# Altium integrated library Analog Devices Operational Amplifiers.IntLib: 2102 symbols (part 48 of 70)
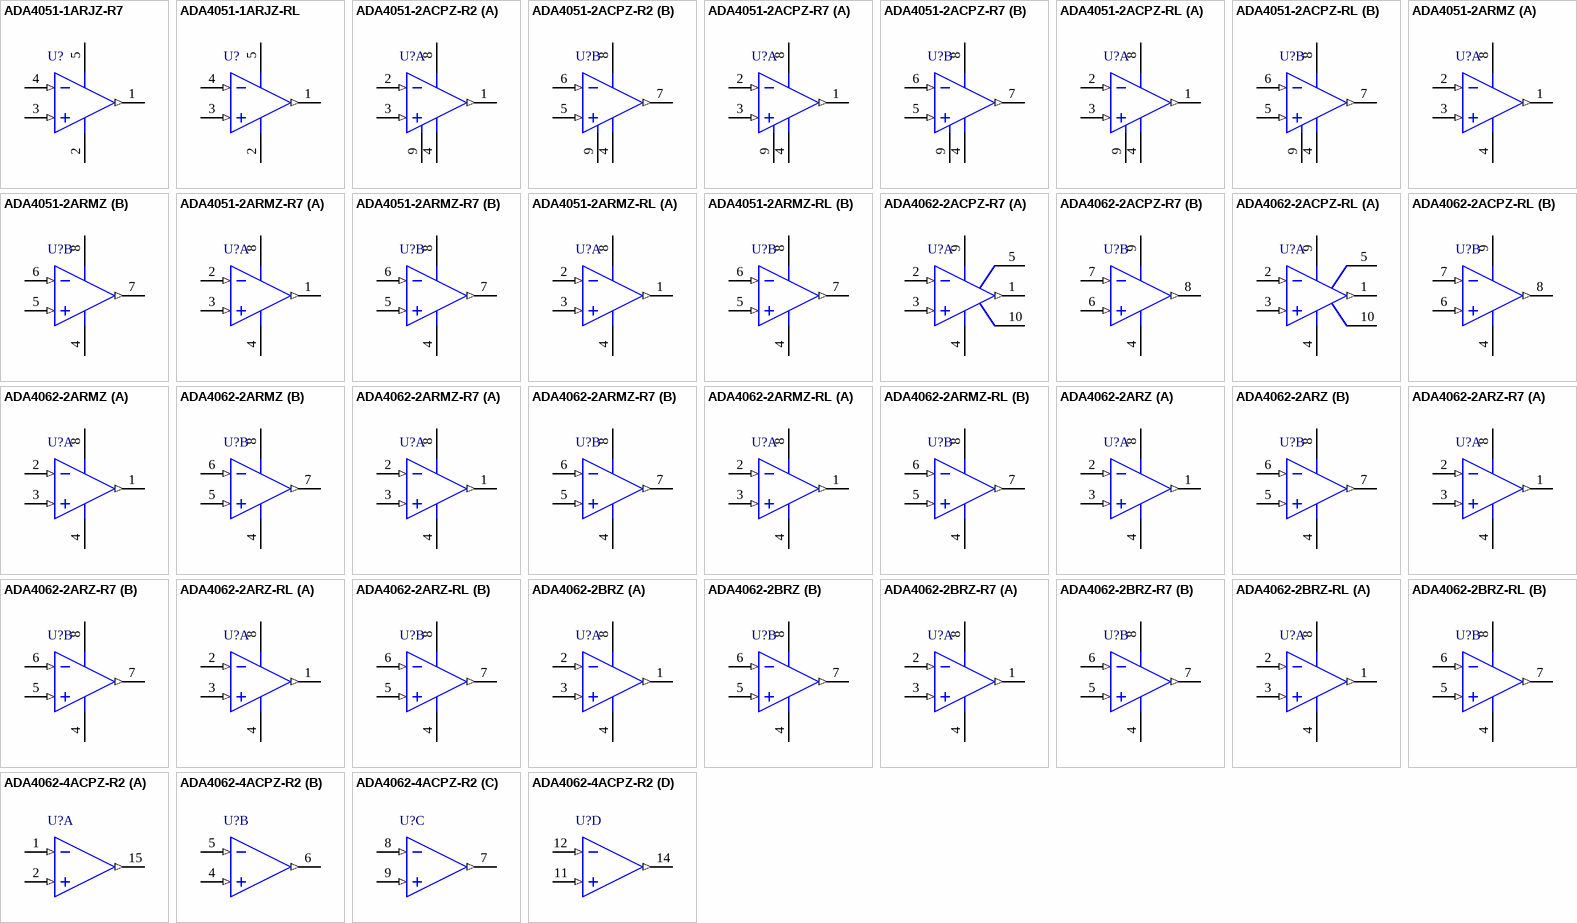
[diagram p161: symbols ADA4051-1ARJZ-R7 to ADA4062-4ACPZ-R2]

## ADA4062-2BRZ-RL
designator U?
Double Channel Low Supply Current Operational Amplifier, 1.4 MHz BW, 3.3 V/us SR, Industrial, 8-pin SOIC (R-8), Reel; Generic Part Number: ADA4062-2; Manufacturer: Analog Devices; PartNumber: ADA4062-2BRZ-RL; Amplifiers Per Package: 2; Input Bias Current: 2pA; Input Offset Voltage: 500uV; Iq/Amp: 165uA; Small Signal Bandwidth: 1.4MHz; V Span Max: 36V; V Span Min: 8V; DatasheetVersion: Rev. B; PackageVersion: 060506-A; PackageReference: R-8; PackageDescription: 8-Pin Standard Small Outline Package, Body 3.9 x 4.9 mm, Pitch 1.27 mm; Supplier 1: Digi-Key; Supplier Part Number 1: ADA4062-2BRZ-RL-ND; Slew Rate: 3.3V/us; Mounting Technology: Surface Mount; Code_JEDEC: MS-012-AA; ComponentLink1Description: Manufacturer URL; ComponentLink1URL: http://www.analog.com/en/index.html; ComponentLink2Description: Datasheet; ComponentLink2URL: http://www.analog.com/static/imported-files/data_sheets/ADA4062-2_4062-4.pdf; ComponentLink3Description: Package Specification; ComponentLink3URL: http://www.analog.com/static/imported-files/packages/PKG_PDF/SOIC_Narrow%20(R)/R_8.pdf; ComponentLink4Description: Reference Circuit; ComponentLink4URL: http://www.analog.com/en/all-operational-amplifiers-op-amps/operational-amplifiers-op-amps/ada4062-2/products/product.html#product-recommendations
footprint ADI-R-8_N (SOIC, 8-Leads, Body 4.9x3.9mm, Pitch 1.27mm, IPC Medium Density)
footprint ADI-R-8_L (SOIC, 8-Leads, Body 4.9x3.9mm, Pitch 1.27mm, IPC High Density)
footprint ADI-R-8_M (SOIC, 8-Leads, Body 4.9x3.9mm, Pitch 1.27mm, IPC Low Density)
pins on every part: 4 -V (power), 8 +V (power)
part A pins: 1 OUT A (out), 2 -IN A (in), 3 +IN A (in)
part B pins: 5 +IN B (in), 6 -IN B (in), 7 OUT B (out)

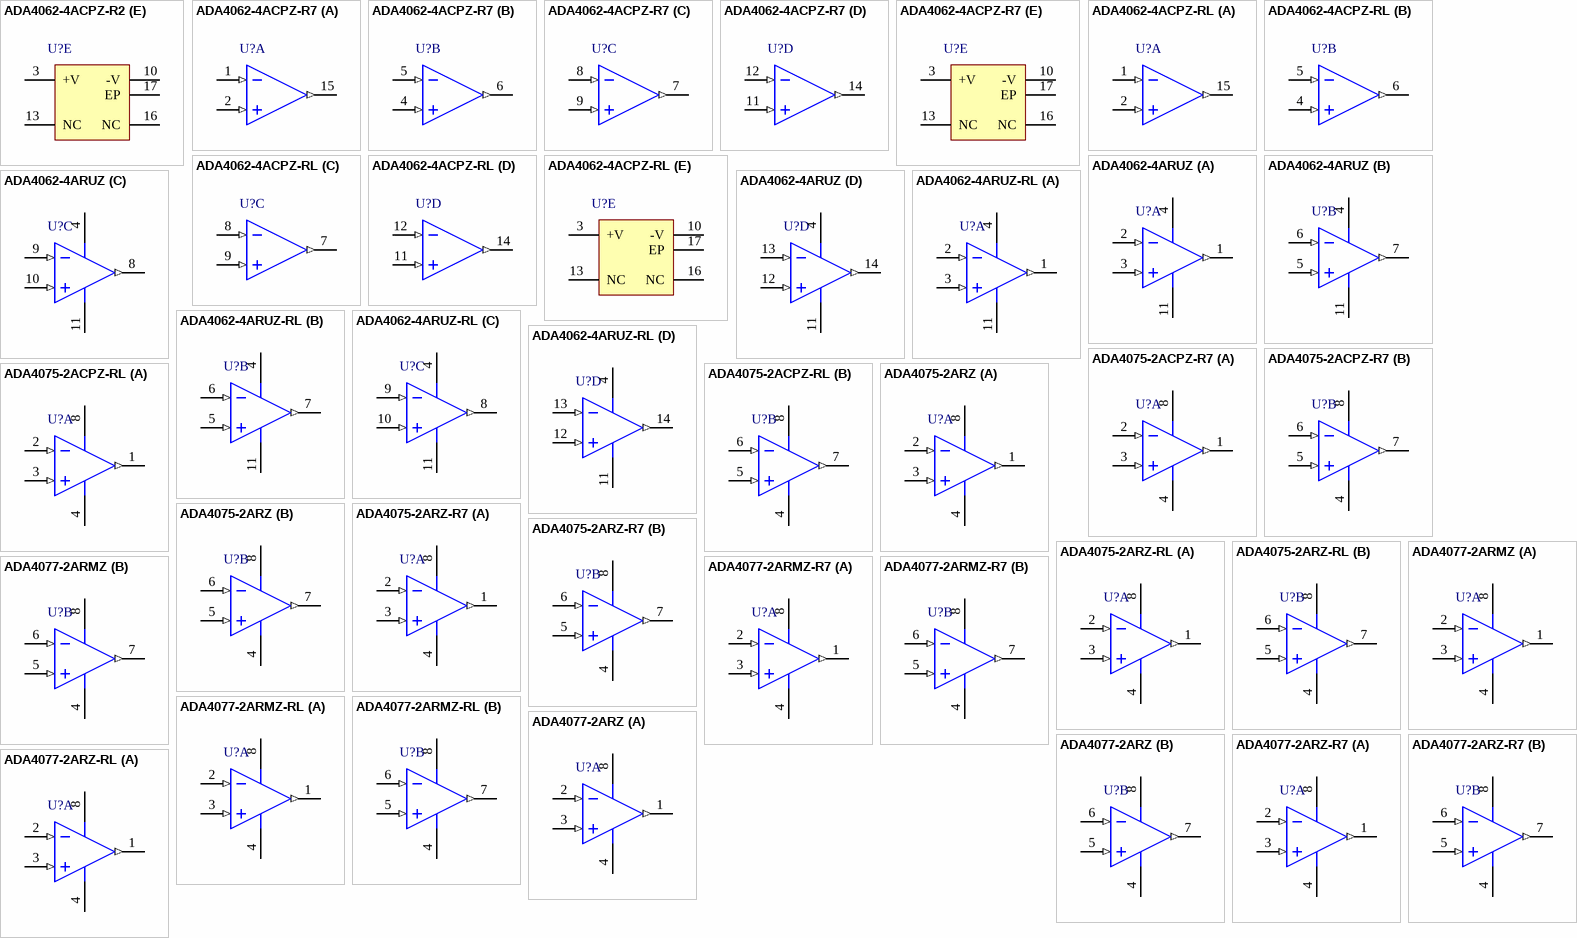
[diagram p75: symbols ADA4062-4ACPZ-R2 to ADA4077-2ARZ-RL]

## ADA4062-4ACPZ-R2
designator U?
Quad Channel Low Supply Current Operational Amplifier, 1.4 MHz BW, 3.3 V/us SR, Industrial, 16-pin QFN (CP-16-22), Reel; Generic Part Number: ADA4062-4; Manufacturer: Analog Devices; PartNumber: ADA4062-4ACPZ-R2; Amplifiers Per Package: 4; Input Bias Current: 2pA; Input Offset Voltage: 750uV; Iq/Amp: 165uA; Small Signal Bandwidth: 1.4MHz; V Span Max: 30V; DatasheetVersion: Rev. B; PackageVersion: 08-16-2010-E; PackageReference: CP-16-22; PackageDescription: 16-Pin Lead Frame Chip Scale Package, Body 3 x 3 mm, Pitch 0.5 mm; Supplier 1: Digi-Key; Supplier Part Number 1: ADA4062-4ACPZ-R2TR-ND; Supplier 2: Digi-Key; Supplier Part Number 2: ADA4062-4ACPZ-R2CT-ND; Supplier 3: Digi-Key; Supplier Part Number 3: ADA4062-4ACPZ-R2DKR-ND; Supplier 4: Newark; Supplier Part Number 4: 63R9727; Slew Rate: 3.3V/us; V Span Min: 30V; Mounting Technology: Surface Mount; Code_JEDEC: MO-220-WEED-6; ComponentLink1Description: Manufacturer URL; ComponentLink1URL: http://www.analog.com/en/index.html; ComponentLink2Description: Datasheet; ComponentLink2URL: http://www.analog.com/static/imported-files/data_sheets/ADA4062-2_4062-4.pdf; ComponentLink3Description: Package Specification; ComponentLink3URL: http://www.analog.com/static/imported-files/packages/PKG_PDF/LFCSP(CP)/CP-16/CP_16_22.pdf
footprint ADI-CP-16-22_N (QFN, 16-Leads, Body 3x3mm, Pitch 0.5mm, Thermal Pad 1.6x1.6mm, IPC Medium Density)
footprint ADI-CP-16-22_L (QFN, 16-Leads, Body 3x3mm, Pitch 0.5mm, Thermal Pad 1.6x1.6mm, IPC High Density)
footprint ADI-CP-16-22_M (QFN, 16-Leads, Body 3x3mm, Pitch 0.5mm, Thermal Pad 1.6x1.6mm, IPC Low Density)
part A pins: 1 -IN A (in), 2 +IN A (in), 15 OUT A (out)
part B pins: 4 +IN B (in), 5 -IN B (in), 6 OUT B (out)
part C pins: 7 OUT C (out), 8 -IN C (in), 9 +IN C (in)
part D pins: 11 +IN D (in), 12 -IN D (in), 14 OUT D (out)
part E pins: 3 +V (power), 10 -V (power), 13 NC, 16 NC, 17 EP (power) "IT IS RECOMMENDED TO CONNECT THE EXPOSED PAD TO V-."

## ADA4062-4ACPZ-R7
designator U?
Quad Channel Low Supply Current Operational Amplifier, 1.4 MHz BW, 3.3 V/us SR, Industrial, 16-pin QFN (CP-16-22), Reel; Generic Part Number: ADA4062-4; Manufacturer: Analog Devices; PartNumber: ADA4062-4ACPZ-R7; Amplifiers Per Package: 4; Input Bias Current: 2pA; Input Offset Voltage: 750uV; Iq/Amp: 165uA; Small Signal Bandwidth: 1.4MHz; V Span Max: 30V; DatasheetVersion: Rev. B; PackageVersion: 08-16-2010-E; PackageReference: CP-16-22; PackageDescription: 16-Pin Lead Frame Chip Scale Package, Body 3 x 3 mm, Pitch 0.5 mm; Supplier 1: Digi-Key; Supplier Part Number 1: ADA4062-4ACPZ-R7-ND; Slew Rate: 3.3V/us; V Span Min: 30V; Mounting Technology: Surface Mount; Code_JEDEC: MO-220-WEED-6; ComponentLink1Description: Manufacturer URL; ComponentLink1URL: http://www.analog.com/en/index.html; ComponentLink2Description: Datasheet; ComponentLink2URL: http://www.analog.com/static/imported-files/data_sheets/ADA4062-2_4062-4.pdf; ComponentLink3Description: Package Specification; ComponentLink3URL: http://www.analog.com/static/imported-files/packages/PKG_PDF/LFCSP(CP)/CP-16/CP_16_22.pdf
footprint ADI-CP-16-22_N (QFN, 16-Leads, Body 3x3mm, Pitch 0.5mm, Thermal Pad 1.6x1.6mm, IPC Medium Density)
footprint ADI-CP-16-22_L (QFN, 16-Leads, Body 3x3mm, Pitch 0.5mm, Thermal Pad 1.6x1.6mm, IPC High Density)
footprint ADI-CP-16-22_M (QFN, 16-Leads, Body 3x3mm, Pitch 0.5mm, Thermal Pad 1.6x1.6mm, IPC Low Density)
part A pins: 1 -IN A (in), 2 +IN A (in), 15 OUT A (out)
part B pins: 4 +IN B (in), 5 -IN B (in), 6 OUT B (out)
part C pins: 7 OUT C (out), 8 -IN C (in), 9 +IN C (in)
part D pins: 11 +IN D (in), 12 -IN D (in), 14 OUT D (out)
part E pins: 3 +V (power), 10 -V (power), 13 NC, 16 NC, 17 EP (power) "IT IS RECOMMENDED TO CONNECT THE EXPOSED PAD TO V-."

## ADA4062-4ACPZ-RL
designator U?
Quad Channel Low Supply Current Operational Amplifier, 1.4 MHz BW, 3.3 V/us SR, Industrial, 16-pin QFN (CP-16-22), Reel; Generic Part Number: ADA4062-4; Manufacturer: Analog Devices; PartNumber: ADA4062-4ACPZ-RL; Amplifiers Per Package: 4; Input Bias Current: 2pA; Input Offset Voltage: 750uV; Iq/Amp: 165uA; Small Signal Bandwidth: 1.4MHz; V Span Max: 30V; DatasheetVersion: Rev. B; PackageVersion: 08-16-2010-E; PackageReference: CP-16-22; PackageDescription: 16-Pin Lead Frame Chip Scale Package, Body 3 x 3 mm, Pitch 0.5 mm; Supplier 1: Digi-Key; Supplier Part Number 1: ADA4062-4ACPZ-RL-ND; Slew Rate: 3.3V/us; V Span Min: 30V; Mounting Technology: Surface Mount; Code_JEDEC: MO-220-WEED-6; ComponentLink1Description: Manufacturer URL; ComponentLink1URL: http://www.analog.com/en/index.html; ComponentLink2Description: Datasheet; ComponentLink2URL: http://www.analog.com/static/imported-files/data_sheets/ADA4062-2_4062-4.pdf; ComponentLink3Description: Package Specification; ComponentLink3URL: http://www.analog.com/static/imported-files/packages/PKG_PDF/LFCSP(CP)/CP-16/CP_16_22.pdf
footprint ADI-CP-16-22_N (QFN, 16-Leads, Body 3x3mm, Pitch 0.5mm, Thermal Pad 1.6x1.6mm, IPC Medium Density)
footprint ADI-CP-16-22_L (QFN, 16-Leads, Body 3x3mm, Pitch 0.5mm, Thermal Pad 1.6x1.6mm, IPC High Density)
footprint ADI-CP-16-22_M (QFN, 16-Leads, Body 3x3mm, Pitch 0.5mm, Thermal Pad 1.6x1.6mm, IPC Low Density)
part A pins: 1 -IN A (in), 2 +IN A (in), 15 OUT A (out)
part B pins: 4 +IN B (in), 5 -IN B (in), 6 OUT B (out)
part C pins: 7 OUT C (out), 8 -IN C (in), 9 +IN C (in)
part D pins: 11 +IN D (in), 12 -IN D (in), 14 OUT D (out)
part E pins: 3 +V (power), 10 -V (power), 13 NC, 16 NC, 17 EP (power) "IT IS RECOMMENDED TO CONNECT THE EXPOSED PAD TO V-."

## ADA4062-4ARUZ
designator U?
Quad Channel Low Supply Current Operational Amplifier, 1.4 MHz BW, 3.3 V/us SR, Industrial, 14-pin SOP (RU-14), Tube; Generic Part Number: ADA4062-4; Manufacturer: Analog Devices; PartNumber: ADA4062-4ARUZ; Amplifiers Per Package: 4; Input Bias Current: 2pA; Input Offset Voltage: 750uV; Iq/Amp: 165uA; Small Signal Bandwidth: 1.4MHz; V Span Max: 30V; DatasheetVersion: Rev. B; PackageReference: RU-14; PackageDescription: 14-Pin Thin Shrink Small Outline Package, Body 5 x 4.4 mm, Pitch 0.65 mm; Supplier 1: Digi-Key; Supplier Part Number 1: ADA4062-4ARUZ-ND; Supplier 2: Newark; Supplier Part Number 2: 26R2385; Slew Rate: 3.3V/us; V Span Min: 30V; Mounting Technology: Surface Mount; Code_JEDEC: MO-153AB-1; ComponentLink1Description: Manufacturer URL; ComponentLink1URL: http://www.analog.com/en/index.html; ComponentLink2Description: Datasheet; ComponentLink2URL: http://www.analog.com/static/imported-files/data_sheets/ADA4062-2_4062-4.pdf; ComponentLink3Description: Package Specification; ComponentLink3URL: http://www.analog.com/static/imported-files/packages/36057385283879153717235186773RU14.pdf
footprint ADI-RU-14_N (SOP, 14-Leads, Body 5x4.4mm, Pitch 0.65mm, IPC Medium Density)
footprint ADI-RU-14_L (SOP, 14-Leads, Body 5x4.4mm, Pitch 0.65mm, IPC High Density)
footprint ADI-RU-14_M (SOP, 14-Leads, Body 5x4.4mm, Pitch 0.65mm, IPC Low Density)
pins on every part: 4 +V (power), 11 -V (power)
part A pins: 1 OUT A (out), 2 -IN A (in), 3 +IN A (in)
part B pins: 5 +IN B (in), 6 -IN B (in), 7 OUT B (out)
part C pins: 8 OUT C (out), 9 -IN C (in), 10 +IN C (in)
part D pins: 12 +IN D (in), 13 -IN D (in), 14 OUT D (out)

## ADA4062-4ARUZ-RL
designator U?
Quad Channel Low Supply Current Operational Amplifier, 1.4 MHz BW, 3.3 V/us SR, Industrial, 14-pin SOP (RU-14), Reel; Generic Part Number: ADA4062-4; Manufacturer: Analog Devices; PartNumber: ADA4062-4ARUZ-RL; Amplifiers Per Package: 4; Input Bias Current: 2pA; Input Offset Voltage: 750uV; Iq/Amp: 165uA; Small Signal Bandwidth: 1.4MHz; V Span Max: 30V; DatasheetVersion: Rev. B; PackageReference: RU-14; PackageDescription: 14-Pin Thin Shrink Small Outline Package, Body 5 x 4.4 mm, Pitch 0.65 mm; Supplier 1: Digi-Key; Supplier Part Number 1: ADA4062-4ARUZ-RL-ND; Supplier 2: Newark; Supplier Part Number 2: 26R2386; Slew Rate: 3.3V/us; V Span Min: 30V; Mounting Technology: Surface Mount; Code_JEDEC: MO-153AB-1; ComponentLink1Description: Manufacturer URL; ComponentLink1URL: http://www.analog.com/en/index.html; ComponentLink2Description: Datasheet; ComponentLink2URL: http://www.analog.com/static/imported-files/data_sheets/ADA4062-2_4062-4.pdf; ComponentLink3Description: Package Specification; ComponentLink3URL: http://www.analog.com/static/imported-files/packages/36057385283879153717235186773RU14.pdf
footprint ADI-RU-14_N (SOP, 14-Leads, Body 5x4.4mm, Pitch 0.65mm, IPC Medium Density)
footprint ADI-RU-14_L (SOP, 14-Leads, Body 5x4.4mm, Pitch 0.65mm, IPC High Density)
footprint ADI-RU-14_M (SOP, 14-Leads, Body 5x4.4mm, Pitch 0.65mm, IPC Low Density)
pins on every part: 4 +V (power), 11 -V (power)
part A pins: 1 OUT A (out), 2 -IN A (in), 3 +IN A (in)
part B pins: 5 +IN B (in), 6 -IN B (in), 7 OUT B (out)
part C pins: 8 OUT C (out), 9 -IN C (in), 10 +IN C (in)
part D pins: 12 +IN D (in), 13 -IN D (in), 14 OUT D (out)

## ADA4075-2ACPZ-R7
designator U?
Double Channel Ultra Low Noise Operational Amplifier, 6.5 MHz BW, 12 V/us SR, Industrial, 8-pin SON (CP-8-6), Reel; Generic Part Number: ADA4075-2; Manufacturer: Analog Devices; PartNumber: ADA4075-2ACPZ-R7; Amplifiers Per Package: 2; Input Bias Current: 30nA; Input Offset Voltage: 300uV; Iq/Amp: 1.8mA; Slew Rate: 12V/us; Small Signal Bandwidth: 6.5MHz; V Span Max: 36V; V Span Min: 24V; DatasheetVersion: Rev. B; PackageVersion: 041508-A; PackageReference: CP-8-6; PackageDescription: 8-Pin Lead Frame Chip Scale Package, Body 2 x 2 mm, Pitch 0.5 mm; Supplier 1: Digi-Key; Supplier Part Number 1: ADA4075-2ACPZ-R7TR-ND; Supplier 2: Digi-Key; Supplier Part Number 2: ADA4075-2ACPZ-R7CT-ND; Supplier 3: Digi-Key; Supplier Part Number 3: ADA4075-2ACPZ-R7DKR-ND; Supplier 4: Farnell; Supplier Part Number 4: 2291566; Supplier 5: Newark; Supplier Part Number 5: 63W5356; Supplier 6: Newark; Supplier Part Number 6: 26R2389; Supplier 7: Newark; Supplier Part Number 7: 66W5877; Mounting Technology: Surface Mount; ComponentLink1Description: Manufacturer URL; ComponentLink1URL: http://www.analog.com/en/index.html; ComponentLink2Description: Datasheet; ComponentLink2URL: http://www.analog.com/static/imported-files/data_sheets/ADA4075-2.pdf; ComponentLink3Description: Package Specification; ComponentLink3URL: http://www.analog.com/static/imported-files/packages/PKG_PDF/LFCSP(CP)/CP_8_6.pdf
footprint ADI-CP-8-6_V (SON, 8-Leads, Body 2x2mm, Pitch 0.5mm)
pins on every part: 4 -V (power), 8 +V (power)
part A pins: 1 OUT A (out), 2 -IN A (in), 3 +IN A (in)
part B pins: 5 +IN B (in), 6 -IN B (in), 7 OUT B (out)

## ADA4075-2ACPZ-RL
designator U?
Double Channel Ultra Low Noise Operational Amplifier, 6.5 MHz BW, 12 V/us SR, Industrial, 8-pin SON (CP-8-6), Reel; Generic Part Number: ADA4075-2; Manufacturer: Analog Devices; PartNumber: ADA4075-2ACPZ-RL; Amplifiers Per Package: 2; Input Bias Current: 30nA; Input Offset Voltage: 300uV; Iq/Amp: 1.8mA; Slew Rate: 12V/us; Small Signal Bandwidth: 6.5MHz; V Span Max: 36V; V Span Min: 24V; DatasheetVersion: Rev. B; PackageVersion: 041508-A; PackageReference: CP-8-6; PackageDescription: 8-Pin Lead Frame Chip Scale Package, Body 2 x 2 mm, Pitch 0.5 mm; Supplier 1: Digi-Key; Supplier Part Number 1: ADA4075-2ACPZ-RL-ND; Supplier 2: Newark; Supplier Part Number 2: 26R2387; Mounting Technology: Surface Mount; ComponentLink1Description: Manufacturer URL; ComponentLink1URL: http://www.analog.com/en/index.html; ComponentLink2Description: Datasheet; ComponentLink2URL: http://www.analog.com/static/imported-files/data_sheets/ADA4075-2.pdf; ComponentLink3Description: Package Specification; ComponentLink3URL: http://www.analog.com/static/imported-files/packages/PKG_PDF/LFCSP(CP)/CP_8_6.pdf
footprint ADI-CP-8-6_V (SON, 8-Leads, Body 2x2mm, Pitch 0.5mm)
pins on every part: 4 -V (power), 8 +V (power)
part A pins: 1 OUT A (out), 2 -IN A (in), 3 +IN A (in)
part B pins: 5 +IN B (in), 6 -IN B (in), 7 OUT B (out)

## ADA4075-2ARZ
designator U?
Double Channel Ultra Low Noise Operational Amplifier, 6.5 MHz BW, 12 V/us SR, Industrial, 8-pin SOIC (R-8), Tube; Generic Part Number: ADA4075-2; Manufacturer: Analog Devices; PartNumber: ADA4075-2ARZ; Amplifiers Per Package: 2; Input Bias Current: 30nA; Input Offset Voltage: 300uV; Iq/Amp: 1.8mA; Slew Rate: 12V/us; Small Signal Bandwidth: 6.5MHz; V Span Max: 36V; V Span Min: 24V; DatasheetVersion: Rev. B; PackageVersion: 060506-A; PackageReference: R-8; PackageDescription: 8-Pin Standard Small Outline Package, Body 3.9 x 4.9 mm, Pitch 1.27 mm; Supplier 1: Digi-Key; Supplier Part Number 1: ADA4075-2ARZ-ND; Supplier 2: Farnell; Supplier Part Number 2: 1701254; Supplier 3: Newark; Supplier Part Number 3: 19P8164; Mounting Technology: Surface Mount; Code_JEDEC: MS-012-AA; ComponentLink1Description: Manufacturer URL; ComponentLink1URL: http://www.analog.com/en/index.html; ComponentLink2Description: Datasheet; ComponentLink2URL: http://www.analog.com/static/imported-files/data_sheets/ADA4075-2.pdf; ComponentLink3Description: Package Specification; ComponentLink3URL: http://www.analog.com/static/imported-files/packages/PKG_PDF/SOIC_Narrow%20(R)/R_8.pdf
footprint ADI-R-8_N (SOIC, 8-Leads, Body 4.9x3.9mm, Pitch 1.27mm, IPC Medium Density)
footprint ADI-R-8_L (SOIC, 8-Leads, Body 4.9x3.9mm, Pitch 1.27mm, IPC High Density)
footprint ADI-R-8_M (SOIC, 8-Leads, Body 4.9x3.9mm, Pitch 1.27mm, IPC Low Density)
pins on every part: 4 -V (power), 8 +V (power)
part A pins: 1 OUT A (out), 2 -IN A (in), 3 +IN A (in)
part B pins: 5 +IN B (in), 6 -IN B (in), 7 OUT B (out)

## ADA4075-2ARZ-R7
designator U?
Double Channel Ultra Low Noise Operational Amplifier, 6.5 MHz BW, 12 V/us SR, Industrial, 8-pin SOIC (R-8), Reel; Generic Part Number: ADA4075-2; Manufacturer: Analog Devices; PartNumber: ADA4075-2ARZ-R7; Amplifiers Per Package: 2; Input Bias Current: 30nA; Input Offset Voltage: 300uV; Iq/Amp: 1.8mA; Slew Rate: 12V/us; Small Signal Bandwidth: 6.5MHz; V Span Max: 36V; V Span Min: 24V; DatasheetVersion: Rev. B; PackageVersion: 060506-A; PackageReference: R-8; PackageDescription: 8-Pin Standard Small Outline Package, Body 3.9 x 4.9 mm, Pitch 1.27 mm; Supplier 1: Digi-Key; Supplier Part Number 1: ADA4075-2ARZ-R7-ND; Supplier 2: Newark; Supplier Part Number 2: 19P8166; Mounting Technology: Surface Mount; Code_JEDEC: MS-012-AA; ComponentLink1Description: Manufacturer URL; ComponentLink1URL: http://www.analog.com/en/index.html; ComponentLink2Description: Datasheet; ComponentLink2URL: http://www.analog.com/static/imported-files/data_sheets/ADA4075-2.pdf; ComponentLink3Description: Package Specification; ComponentLink3URL: http://www.analog.com/static/imported-files/packages/PKG_PDF/SOIC_Narrow%20(R)/R_8.pdf
footprint ADI-R-8_N (SOIC, 8-Leads, Body 4.9x3.9mm, Pitch 1.27mm, IPC Medium Density)
footprint ADI-R-8_L (SOIC, 8-Leads, Body 4.9x3.9mm, Pitch 1.27mm, IPC High Density)
footprint ADI-R-8_M (SOIC, 8-Leads, Body 4.9x3.9mm, Pitch 1.27mm, IPC Low Density)
pins on every part: 4 -V (power), 8 +V (power)
part A pins: 1 OUT A (out), 2 -IN A (in), 3 +IN A (in)
part B pins: 5 +IN B (in), 6 -IN B (in), 7 OUT B (out)

## ADA4075-2ARZ-RL
designator U?
Double Channel Ultra Low Noise Operational Amplifier, 6.5 MHz BW, 12 V/us SR, Industrial, 8-pin SOIC (R-8), Reel; Generic Part Number: ADA4075-2; Manufacturer: Analog Devices; PartNumber: ADA4075-2ARZ-RL; Amplifiers Per Package: 2; Input Bias Current: 30nA; Input Offset Voltage: 300uV; Iq/Amp: 1.8mA; Slew Rate: 12V/us; Small Signal Bandwidth: 6.5MHz; V Span Max: 36V; V Span Min: 24V; DatasheetVersion: Rev. B; PackageVersion: 060506-A; PackageReference: R-8; PackageDescription: 8-Pin Standard Small Outline Package, Body 3.9 x 4.9 mm, Pitch 1.27 mm; Supplier 1: Digi-Key; Supplier Part Number 1: ADA4075-2ARZ-RL-ND; Supplier 2: Newark; Supplier Part Number 2: 19P8165; Mounting Technology: Surface Mount; Code_JEDEC: MS-012-AA; ComponentLink1Description: Manufacturer URL; ComponentLink1URL: http://www.analog.com/en/index.html; ComponentLink2Description: Datasheet; ComponentLink2URL: http://www.analog.com/static/imported-files/data_sheets/ADA4075-2.pdf; ComponentLink3Description: Package Specification; ComponentLink3URL: http://www.analog.com/static/imported-files/packages/PKG_PDF/SOIC_Narrow%20(R)/R_8.pdf
footprint ADI-R-8_N (SOIC, 8-Leads, Body 4.9x3.9mm, Pitch 1.27mm, IPC Medium Density)
footprint ADI-R-8_L (SOIC, 8-Leads, Body 4.9x3.9mm, Pitch 1.27mm, IPC High Density)
footprint ADI-R-8_M (SOIC, 8-Leads, Body 4.9x3.9mm, Pitch 1.27mm, IPC Low Density)
pins on every part: 4 -V (power), 8 +V (power)
part A pins: 1 OUT A (out), 2 -IN A (in), 3 +IN A (in)
part B pins: 5 +IN B (in), 6 -IN B (in), 7 OUT B (out)

## ADA4077-2ARMZ
designator U?
Double Channel Wide Bandwidth Operational Amplifier, 4 MHz BW, 1 V/us SR, Industrial, 8-pin SOP (RM-8), Tube; Generic Part Number: ADA4077-2; Manufacturer: Analog Devices; PartNumber: ADA4077-2ARMZ; Amplifiers Per Package: 2; Input Bias Current: -400pA; Input Offset Voltage: 50uV; Iq/Amp: 400uA; Slew Rate: 1V/us; Small Signal Bandwidth: 4MHz; V Span Max: 30V; V Span Min: 10V; DatasheetVersion: Rev. 0; PackageReference: RM-8; PackageDescription: 8-Pin Mini Small Outline Package, Body 3 x 3 mm, Pitch 0.65 mm; Supplier 1: Digi-Key; Supplier Part Number 1: ADA4077-2ARMZ-ND; Supplier 2: Newark; Supplier Part Number 2: 47W4378; Packing: Tube; Mounting Technology: Surface Mount; Code_JEDEC: MO-187-AA; ComponentLink1Description: Manufacturer URL; ComponentLink1URL: http://www.analog.com/en/index.html; ComponentLink2Description: Datasheet; ComponentLink2URL: http://www.analog.com/static/imported-files/data_sheets/ADA4077-2.pdf; ComponentLink3Description: Package Specification; ComponentLink3URL: http://www.analog.com/static/imported-files/packages/PKG_PDF/MSOP%28RM%29/RM_8.pdf
footprint ADI-RM-8_N (SOP, 8-Leads, Body 3x3mm, Pitch 0.65mm, IPC Medium Density)
footprint ADI-RM-8_L (SOP, 8-Leads, Body 3x3mm, Pitch 0.65mm, IPC High Density)
footprint ADI-RM-8_M (SOP, 8-Leads, Body 3x3mm, Pitch 0.65mm, IPC Low Density)
pins on every part: 4 -V (power), 8 +V (power)
part A pins: 1 OUT A (out), 2 -IN A (in), 3 +IN A (in)
part B pins: 5 +IN B (in), 6 -IN B (in), 7 OUT B (out)

## ADA4077-2ARMZ-R7
designator U?
Double Channel Wide Bandwidth Operational Amplifier, 4 MHz BW, 1 V/us SR, Industrial, 8-pin SOP (RM-8), Reel; Generic Part Number: ADA4077-2; Manufacturer: Analog Devices; PartNumber: ADA4077-2ARMZ-R7; Amplifiers Per Package: 2; Input Bias Current: -400pA; Input Offset Voltage: 50uV; Iq/Amp: 400uA; Slew Rate: 1V/us; Small Signal Bandwidth: 4MHz; V Span Max: 30V; V Span Min: 10V; DatasheetVersion: Rev. 0; PackageReference: RM-8; PackageDescription: 8-Pin Mini Small Outline Package, Body 3 x 3 mm, Pitch 0.65 mm; Supplier 1: Digi-Key; Supplier Part Number 1: ADA4077-2ARMZ-R7TR-ND; Supplier 2: Digi-Key; Supplier Part Number 2: ADA4077-2ARMZ-R7CT-ND; Supplier 3: Digi-Key; Supplier Part Number 3: ADA4077-2ARMZ-R7DKR-ND; Supplier 4: Newark; Supplier Part Number 4: 47W4380; Mounting Technology: Surface Mount; Code_JEDEC: MO-187-AA; ComponentLink1Description: Manufacturer URL; ComponentLink1URL: http://www.analog.com/en/index.html; ComponentLink2Description: Datasheet; ComponentLink2URL: http://www.analog.com/static/imported-files/data_sheets/ADA4077-2.pdf; ComponentLink3Description: Package Specification; ComponentLink3URL: http://www.analog.com/static/imported-files/packages/PKG_PDF/MSOP%28RM%29/RM_8.pdf
footprint ADI-RM-8_N (SOP, 8-Leads, Body 3x3mm, Pitch 0.65mm, IPC Medium Density)
footprint ADI-RM-8_L (SOP, 8-Leads, Body 3x3mm, Pitch 0.65mm, IPC High Density)
footprint ADI-RM-8_M (SOP, 8-Leads, Body 3x3mm, Pitch 0.65mm, IPC Low Density)
pins on every part: 4 -V (power), 8 +V (power)
part A pins: 1 OUT A (out), 2 -IN A (in), 3 +IN A (in)
part B pins: 5 +IN B (in), 6 -IN B (in), 7 OUT B (out)

## ADA4077-2ARMZ-RL
designator U?
Double Channel Wide Bandwidth Operational Amplifier, 4 MHz BW, 1 V/us SR, Industrial, 8-pin SOP (RM-8), Reel; Generic Part Number: ADA4077-2; Manufacturer: Analog Devices; PartNumber: ADA4077-2ARMZ-RL; Amplifiers Per Package: 2; Input Bias Current: -400pA; Input Offset Voltage: 50uV; Iq/Amp: 400uA; Slew Rate: 1V/us; Small Signal Bandwidth: 4MHz; V Span Max: 30V; V Span Min: 10V; DatasheetVersion: Rev. 0; PackageReference: RM-8; PackageDescription: 8-Pin Mini Small Outline Package, Body 3 x 3 mm, Pitch 0.65 mm; Supplier 1: Digi-Key; Supplier Part Number 1: ADA4077-2ARMZ-RL-ND; Supplier 2: Newark; Supplier Part Number 2: 47W4379; Packing: Reel; Mounting Technology: Surface Mount; Code_JEDEC: MO-187-AA; ComponentLink1Description: Manufacturer URL; ComponentLink1URL: http://www.analog.com/en/index.html; ComponentLink2Description: Datasheet; ComponentLink2URL: http://www.analog.com/static/imported-files/data_sheets/ADA4077-2.pdf; ComponentLink3Description: Package Specification; ComponentLink3URL: http://www.analog.com/static/imported-files/packages/PKG_PDF/MSOP%28RM%29/RM_8.pdf
footprint ADI-RM-8_N (SOP, 8-Leads, Body 3x3mm, Pitch 0.65mm, IPC Medium Density)
footprint ADI-RM-8_L (SOP, 8-Leads, Body 3x3mm, Pitch 0.65mm, IPC High Density)
footprint ADI-RM-8_M (SOP, 8-Leads, Body 3x3mm, Pitch 0.65mm, IPC Low Density)
pins on every part: 4 -V (power), 8 +V (power)
part A pins: 1 OUT A (out), 2 -IN A (in), 3 +IN A (in)
part B pins: 5 +IN B (in), 6 -IN B (in), 7 OUT B (out)

## ADA4077-2ARZ
designator U?
Double Channel Wide Bandwidth Operational Amplifier, 4 MHz BW, 1 V/us SR, Industrial, 8-pin SOIC (R-8), Tube; Generic Part Number: ADA4077-2; Manufacturer: Analog Devices; PartNumber: ADA4077-2ARZ; Amplifiers Per Package: 2; Input Bias Current: -400pA; Input Offset Voltage: 15uV; Iq/Amp: 400uA; Slew Rate: 1V/us; Small Signal Bandwidth: 4MHz; V Span Max: 30V; V Span Min: 10V; DatasheetVersion: Rev. 0; PackageVersion: 060506-A; PackageReference: R-8; PackageDescription: 8-Pin Standard Small Outline Package, Body 3.9 x 4.9 mm, Pitch 1.27 mm; Supplier 1: Digi-Key; Supplier Part Number 1: ADA4077-2ARZ-ND; Supplier 2: Farnell; Supplier Part Number 2: 2254933; Supplier 3: Newark; Supplier Part Number 3: 47W4381; Supplier 4: Newark; Supplier Part Number 4: 53W8543; Packing: Tube; Mounting Technology: Surface Mount; Code_JEDEC: MS-012-AA; ComponentLink1Description: Manufacturer URL; ComponentLink1URL: http://www.analog.com/en/index.html; ComponentLink2Description: Datasheet; ComponentLink2URL: http://www.analog.com/static/imported-files/data_sheets/ADA4077-2.pdf; ComponentLink3Description: Package Specification; ComponentLink3URL: http://www.analog.com/static/imported-files/packages/PKG_PDF/SOIC_Narrow%20(R)/R_8.pdf
footprint ADI-R-8_N (SOIC, 8-Leads, Body 4.9x3.9mm, Pitch 1.27mm, IPC Medium Density)
footprint ADI-R-8_L (SOIC, 8-Leads, Body 4.9x3.9mm, Pitch 1.27mm, IPC High Density)
footprint ADI-R-8_M (SOIC, 8-Leads, Body 4.9x3.9mm, Pitch 1.27mm, IPC Low Density)
pins on every part: 4 -V (power), 8 +V (power)
part A pins: 1 OUT A (out), 2 -IN A (in), 3 +IN A (in)
part B pins: 5 +IN B (in), 6 -IN B (in), 7 OUT B (out)

## ADA4077-2ARZ-R7
designator U?
Double Channel Wide Bandwidth Operational Amplifier, 4 MHz BW, 1 V/us SR, Industrial, 8-pin SOIC (R-8), Reel; Generic Part Number: ADA4077-2; Manufacturer: Analog Devices; PartNumber: ADA4077-2ARZ-R7; Amplifiers Per Package: 2; Input Bias Current: -400pA; Input Offset Voltage: 15uV; Iq/Amp: 400uA; Slew Rate: 1V/us; Small Signal Bandwidth: 4MHz; V Span Max: 30V; V Span Min: 10V; DatasheetVersion: Rev. 0; PackageVersion: 060506-A; PackageReference: R-8; PackageDescription: 8-Pin Standard Small Outline Package, Body 3.9 x 4.9 mm, Pitch 1.27 mm; Supplier 1: Digi-Key; Supplier Part Number 1: ADA4077-2ARZ-R7TR-ND; Supplier 2: Digi-Key; Supplier Part Number 2: ADA4077-2ARZ-R7CT-ND; Supplier 3: Digi-Key; Supplier Part Number 3: ADA4077-2ARZ-R7DKR-ND; Supplier 4: Newark; Supplier Part Number 4: 47W4383; Packing: Reel; Mounting Technology: Surface Mount; Code_JEDEC: MS-012-AA; ComponentLink1Description: Manufacturer URL; ComponentLink1URL: http://www.analog.com/en/index.html; ComponentLink2Description: Datasheet; ComponentLink2URL: http://www.analog.com/static/imported-files/data_sheets/ADA4077-2.pdf; ComponentLink3Description: Package Specification; ComponentLink3URL: http://www.analog.com/static/imported-files/packages/PKG_PDF/SOIC_Narrow%20(R)/R_8.pdf
footprint ADI-R-8_N (SOIC, 8-Leads, Body 4.9x3.9mm, Pitch 1.27mm, IPC Medium Density)
footprint ADI-R-8_L (SOIC, 8-Leads, Body 4.9x3.9mm, Pitch 1.27mm, IPC High Density)
footprint ADI-R-8_M (SOIC, 8-Leads, Body 4.9x3.9mm, Pitch 1.27mm, IPC Low Density)
pins on every part: 4 -V (power), 8 +V (power)
part A pins: 1 OUT A (out), 2 -IN A (in), 3 +IN A (in)
part B pins: 5 +IN B (in), 6 -IN B (in), 7 OUT B (out)

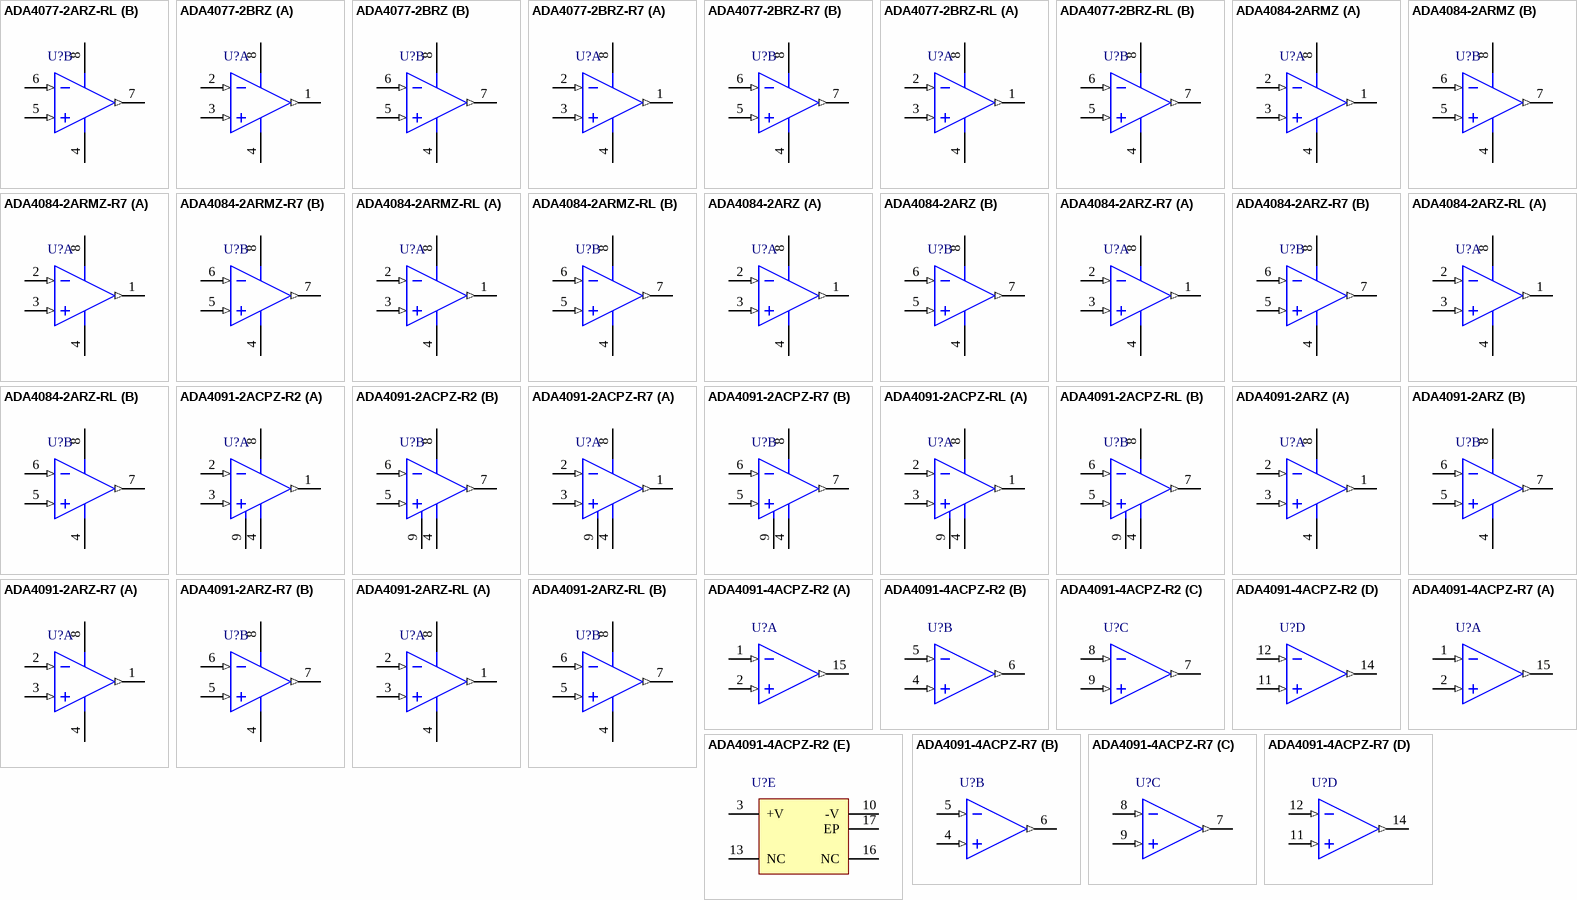
[diagram p76: symbols ADA4077-2ARZ-RL to ADA4091-4ACPZ-R7]

## ADA4077-2ARZ-RL
designator U?
Double Channel Wide Bandwidth Operational Amplifier, 4 MHz BW, 1 V/us SR, Industrial, 8-pin SOIC (R-8), Reel; Generic Part Number: ADA4077-2; Manufacturer: Analog Devices; PartNumber: ADA4077-2ARZ-RL; Amplifiers Per Package: 2; Input Bias Current: -400pA; Input Offset Voltage: 15uV; Iq/Amp: 400uA; Slew Rate: 1V/us; Small Signal Bandwidth: 4MHz; V Span Max: 30V; V Span Min: 10V; DatasheetVersion: Rev. 0; PackageVersion: 060506-A; PackageReference: R-8; PackageDescription: 8-Pin Standard Small Outline Package, Body 3.9 x 4.9 mm, Pitch 1.27 mm; Supplier 1: Digi-Key; Supplier Part Number 1: ADA4077-2ARZ-RL-ND; Supplier 2: Newark; Supplier Part Number 2: 47W4382; Packing: Reel; Mounting Technology: Surface Mount; Code_JEDEC: MS-012-AA; ComponentLink1Description: Manufacturer URL; ComponentLink1URL: http://www.analog.com/en/index.html; ComponentLink2Description: Datasheet; ComponentLink2URL: http://www.analog.com/static/imported-files/data_sheets/ADA4077-2.pdf; ComponentLink3Description: Package Specification; ComponentLink3URL: http://www.analog.com/static/imported-files/packages/PKG_PDF/SOIC_Narrow%20(R)/R_8.pdf
footprint ADI-R-8_N (SOIC, 8-Leads, Body 4.9x3.9mm, Pitch 1.27mm, IPC Medium Density)
footprint ADI-R-8_L (SOIC, 8-Leads, Body 4.9x3.9mm, Pitch 1.27mm, IPC High Density)
footprint ADI-R-8_M (SOIC, 8-Leads, Body 4.9x3.9mm, Pitch 1.27mm, IPC Low Density)
pins on every part: 4 -V (power), 8 +V (power)
part A pins: 1 OUT A (out), 2 -IN A (in), 3 +IN A (in)
part B pins: 5 +IN B (in), 6 -IN B (in), 7 OUT B (out)

## ADA4077-2BRZ
designator U?
Double Channel Wide Bandwidth Operational Amplifier, 4 MHz BW, 1 V/us SR, Industrial, 8-pin SOIC (R-8), Tube; Generic Part Number: ADA4077-2; Manufacturer: Analog Devices; PartNumber: ADA4077-2BRZ; Amplifiers Per Package: 2; Input Bias Current: 400pA; Input Offset Voltage: 10uV; Iq/Amp: 400uA; Slew Rate: 1V/us; Small Signal Bandwidth: 4MHz; V Span Max: 30V; V Span Min: 10V; DatasheetVersion: Rev. 0; PackageVersion: 060506-A; PackageReference: R-8; PackageDescription: 8-Pin Standard Small Outline Package, Body 3.9 x 4.9 mm, Pitch 1.27 mm; Supplier 1: Digi-Key; Supplier Part Number 1: ADA4077-2BRZ-ND; Supplier 2: Newark; Supplier Part Number 2: 47W4384; Mounting Technology: Surface Mount; Code_JEDEC: MS-012-AA; ComponentLink1Description: Manufacturer URL; ComponentLink1URL: http://www.analog.com/en/index.html; ComponentLink2Description: Datasheet; ComponentLink2URL: http://www.analog.com/static/imported-files/data_sheets/ADA4077-2.pdf; ComponentLink3Description: Package Specification; ComponentLink3URL: http://www.analog.com/static/imported-files/packages/PKG_PDF/SOIC_Narrow%20(R)/R_8.pdf
footprint ADI-R-8_N (SOIC, 8-Leads, Body 4.9x3.9mm, Pitch 1.27mm, IPC Medium Density)
footprint ADI-R-8_L (SOIC, 8-Leads, Body 4.9x3.9mm, Pitch 1.27mm, IPC High Density)
footprint ADI-R-8_M (SOIC, 8-Leads, Body 4.9x3.9mm, Pitch 1.27mm, IPC Low Density)
pins on every part: 4 -V (power), 8 +V (power)
part A pins: 1 OUT A (out), 2 -IN A (in), 3 +IN A (in)
part B pins: 5 +IN B (in), 6 -IN B (in), 7 OUT B (out)

## ADA4077-2BRZ-R7
designator U?
Double Channel Wide Bandwidth Operational Amplifier, 4 MHz BW, 1 V/us SR, Industrial, 8-pin SOIC (R-8), Reel; Generic Part Number: ADA4077-2; Manufacturer: Analog Devices; PartNumber: ADA4077-2BRZ-R7; Amplifiers Per Package: 2; Input Bias Current: -400pA; Input Offset Voltage: 15uV; Iq/Amp: 400uA; Slew Rate: 1V/us; Small Signal Bandwidth: 4MHz; V Span Max: 30V; V Span Min: 10V; DatasheetVersion: Rev. 0; PackageVersion: 060506-A; PackageReference: R-8; PackageDescription: 8-Pin Standard Small Outline Package, Body 3.9 x 4.9 mm, Pitch 1.27 mm; Supplier 1: Digi-Key; Supplier Part Number 1: ADA4077-2BRZ-R7TR-ND; Supplier 2: Digi-Key; Supplier Part Number 2: ADA4077-2BRZ-R7CT-ND; Supplier 3: Digi-Key; Supplier Part Number 3: ADA4077-2BRZ-R7DKR-ND; Supplier 4: Newark; Supplier Part Number 4: 47W4386; Packing: Reel; Mounting Technology: Surface Mount; Code_JEDEC: MS-012-AA; ComponentLink1Description: Manufacturer URL; ComponentLink1URL: http://www.analog.com/en/index.html; ComponentLink2Description: Datasheet; ComponentLink2URL: http://www.analog.com/static/imported-files/data_sheets/ADA4077-2.pdf; ComponentLink3Description: Package Specification; ComponentLink3URL: http://www.analog.com/static/imported-files/packages/PKG_PDF/SOIC_Narrow%20(R)/R_8.pdf
footprint ADI-R-8_N (SOIC, 8-Leads, Body 4.9x3.9mm, Pitch 1.27mm, IPC Medium Density)
footprint ADI-R-8_L (SOIC, 8-Leads, Body 4.9x3.9mm, Pitch 1.27mm, IPC High Density)
footprint ADI-R-8_M (SOIC, 8-Leads, Body 4.9x3.9mm, Pitch 1.27mm, IPC Low Density)
pins on every part: 4 -V (power), 8 +V (power)
part A pins: 1 OUT A (out), 2 -IN A (in), 3 +IN A (in)
part B pins: 5 +IN B (in), 6 -IN B (in), 7 OUT B (out)

## ADA4077-2BRZ-RL
designator U?
Double Channel Wide Bandwidth Operational Amplifier, 4 MHz BW, 1 V/us SR, Industrial, 8-pin SOIC (R-8), Reel; Generic Part Number: ADA4077-2; Manufacturer: Analog Devices; PartNumber: ADA4077-2BRZ-RL; Amplifiers Per Package: 2; Input Bias Current: 400pA; Input Offset Voltage: 10uV; Iq/Amp: 400uA; Slew Rate: 1V/us; Small Signal Bandwidth: 4MHz; V Span Max: 30V; V Span Min: 10V; DatasheetVersion: Rev. 0; PackageVersion: 060506-A; PackageReference: R-8; PackageDescription: 8-Pin Standard Small Outline Package, Body 3.9 x 4.9 mm, Pitch 1.27 mm; Supplier 1: Digi-Key; Supplier Part Number 1: ADA4077-2BRZ-RL-ND; Supplier 2: Newark; Supplier Part Number 2: 47W4385; Packing: Reel; Mounting Technology: Surface Mount; Code_JEDEC: MS-012-AA; ComponentLink1Description: Manufacturer URL; ComponentLink1URL: http://www.analog.com/en/index.html; ComponentLink2Description: Datasheet; ComponentLink2URL: http://www.analog.com/static/imported-files/data_sheets/ADA4077-2.pdf; ComponentLink3Description: Package Specification; ComponentLink3URL: http://www.analog.com/static/imported-files/packages/PKG_PDF/SOIC_Narrow%20(R)/R_8.pdf
footprint ADI-R-8_N (SOIC, 8-Leads, Body 4.9x3.9mm, Pitch 1.27mm, IPC Medium Density)
footprint ADI-R-8_L (SOIC, 8-Leads, Body 4.9x3.9mm, Pitch 1.27mm, IPC High Density)
footprint ADI-R-8_M (SOIC, 8-Leads, Body 4.9x3.9mm, Pitch 1.27mm, IPC Low Density)
pins on every part: 4 -V (power), 8 +V (power)
part A pins: 1 OUT A (out), 2 -IN A (in), 3 +IN A (in)
part B pins: 5 +IN B (in), 6 -IN B (in), 7 OUT B (out)

## ADA4084-2ARMZ
designator U?
Double Channel Low Power Operational Amplifier, 12.3 MHz BW, 2.6 V/us SR, Industrial, 8-pin SOP (RM-8), Tube; Generic Part Number: ADA4084-2; Manufacturer: Analog Devices; PartNumber: ADA4084-2ARMZ; Amplifiers Per Package: 2; Input Bias Current: 140nA; Input Offset Voltage: 100uV; Iq/Amp: 595uA; V Span Max: 30V; V Span Min: 3V; DatasheetVersion: Rev. B; PackageReference: RM-8; PackageDescription: 8-Pin Mini Small Outline Package, Body 3 x 3 mm, Pitch 0.65 mm; Supplier 1: Digi-Key; Supplier Part Number 1: ADA4084-2ARMZ-ND; Supplier 2: Farnell; Supplier Part Number 2: 2070702; Supplier 3: Newark; Supplier Part Number 3: 72T3468; Packing: Tube; Slew Rate: 2.6V/us; Small Signal Bandwidth: 12.3MHz; Mounting Technology: Surface Mount; Code_JEDEC: MO-187-AA; ComponentLink1Description: Manufacturer URL; ComponentLink1URL: http://www.analog.com/en/index.html; ComponentLink2Description: Datasheet; ComponentLink2URL: http://www.analog.com/static/imported-files/data_sheets/ADA4084-2.pdf; ComponentLink3Description: Package Specification; ComponentLink3URL: http://www.analog.com/static/imported-files/packages/PKG_PDF/MSOP%28RM%29/RM_8.pdf
footprint ADI-RM-8_N (SOP, 8-Leads, Body 3x3mm, Pitch 0.65mm, IPC Medium Density)
footprint ADI-RM-8_L (SOP, 8-Leads, Body 3x3mm, Pitch 0.65mm, IPC High Density)
footprint ADI-RM-8_M (SOP, 8-Leads, Body 3x3mm, Pitch 0.65mm, IPC Low Density)
pins on every part: 4 -V (power), 8 +V (power)
part A pins: 1 OUT A (out), 2 -IN A (in), 3 +IN A (in)
part B pins: 5 +IN B (in), 6 -IN B (in), 7 OUT B (out)

## ADA4084-2ARMZ-R7
designator U?
Double Channel Low Power Operational Amplifier, 12.3 MHz BW, 2.6 V/us SR, Industrial, 8-pin SOP (RM-8), Reel; Generic Part Number: ADA4084-2; Manufacturer: Analog Devices; PartNumber: ADA4084-2ARMZ-R7; Amplifiers Per Package: 2; Input Bias Current: 140nA; Input Offset Voltage: 100uV; Iq/Amp: 595uA; V Span Max: 30V; V Span Min: 3V; DatasheetVersion: Rev. B; PackageReference: RM-8; PackageDescription: 8-Pin Mini Small Outline Package, Body 3 x 3 mm, Pitch 0.65 mm; Supplier 1: Digi-Key; Supplier Part Number 1: ADA4084-2ARMZ-R7TR-ND; Supplier 2: Digi-Key; Supplier Part Number 2: ADA4084-2ARMZ-R7CT-ND; Supplier 3: Digi-Key; Supplier Part Number 3: ADA4084-2ARMZ-R7DKR-ND; Supplier 4: Newark; Supplier Part Number 4: 72T3470; Packing: Reel; Slew Rate: 2.6V/us; Small Signal Bandwidth: 12.3MHz; Mounting Technology: Surface Mount; Code_JEDEC: MO-187-AA; ComponentLink1Description: Manufacturer URL; ComponentLink1URL: http://www.analog.com/en/index.html; ComponentLink2Description: Datasheet; ComponentLink2URL: http://www.analog.com/static/imported-files/data_sheets/ADA4084-2.pdf; ComponentLink3Description: Package Specification; ComponentLink3URL: http://www.analog.com/static/imported-files/packages/PKG_PDF/MSOP%28RM%29/RM_8.pdf
footprint ADI-RM-8_N (SOP, 8-Leads, Body 3x3mm, Pitch 0.65mm, IPC Medium Density)
footprint ADI-RM-8_L (SOP, 8-Leads, Body 3x3mm, Pitch 0.65mm, IPC High Density)
footprint ADI-RM-8_M (SOP, 8-Leads, Body 3x3mm, Pitch 0.65mm, IPC Low Density)
pins on every part: 4 -V (power), 8 +V (power)
part A pins: 1 OUT A (out), 2 -IN A (in), 3 +IN A (in)
part B pins: 5 +IN B (in), 6 -IN B (in), 7 OUT B (out)

## ADA4084-2ARMZ-RL
designator U?
Double Channel Low Power Operational Amplifier, 12.3 MHz BW, 2.6 V/us SR, Industrial, 8-pin SOP (RM-8), Reel; Generic Part Number: ADA4084-2; Manufacturer: Analog Devices; PartNumber: ADA4084-2ARMZ-RL; Amplifiers Per Package: 2; Input Bias Current: 140nA; Input Offset Voltage: 100uV; Iq/Amp: 595uA; V Span Max: 30V; V Span Min: 3V; DatasheetVersion: Rev. B; PackageReference: RM-8; PackageDescription: 8-Pin Mini Small Outline Package, Body 3 x 3 mm, Pitch 0.65 mm; Supplier 1: Digi-Key; Supplier Part Number 1: ADA4084-2ARMZ-RL-ND; Supplier 2: Newark; Supplier Part Number 2: 72T3469; Packing: Reel; Slew Rate: 2.6V/us; Small Signal Bandwidth: 12.3MHz; Mounting Technology: Surface Mount; Code_JEDEC: MO-187-AA; ComponentLink1Description: Manufacturer URL; ComponentLink1URL: http://www.analog.com/en/index.html; ComponentLink2Description: Datasheet; ComponentLink2URL: http://www.analog.com/static/imported-files/data_sheets/ADA4084-2.pdf; ComponentLink3Description: Package Specification; ComponentLink3URL: http://www.analog.com/static/imported-files/packages/PKG_PDF/MSOP%28RM%29/RM_8.pdf
footprint ADI-RM-8_N (SOP, 8-Leads, Body 3x3mm, Pitch 0.65mm, IPC Medium Density)
footprint ADI-RM-8_L (SOP, 8-Leads, Body 3x3mm, Pitch 0.65mm, IPC High Density)
footprint ADI-RM-8_M (SOP, 8-Leads, Body 3x3mm, Pitch 0.65mm, IPC Low Density)
pins on every part: 4 -V (power), 8 +V (power)
part A pins: 1 OUT A (out), 2 -IN A (in), 3 +IN A (in)
part B pins: 5 +IN B (in), 6 -IN B (in), 7 OUT B (out)

## ADA4084-2ARZ
designator U?
Double Channel Low Power Operational Amplifier, 12.3 MHz BW, 2.6 V/us SR, Industrial, 8-pin SOIC (R-8), Tube; Generic Part Number: ADA4084-2; Manufacturer: Analog Devices; PartNumber: ADA4084-2ARZ; Amplifiers Per Package: 2; Input Bias Current: 140nA; Input Offset Voltage: 100uV; Iq/Amp: 595uA; V Span Max: 30V; V Span Min: 3V; DatasheetVersion: Rev. B; PackageVersion: 060506-A; PackageReference: R-8; PackageDescription: 8-Pin Standard Small Outline Package, Body 3.9 x 4.9 mm, Pitch 1.27 mm; Supplier 1: Digi-Key; Supplier Part Number 1: ADA4084-2ARZ-ND; Supplier 2: Farnell; Supplier Part Number 2: 2070703; Supplier 3: Newark; Supplier Part Number 3: 72T3471; Packing: Tube; Slew Rate: 2.6V/us; Small Signal Bandwidth: 12.3MHz; Mounting Technology: Surface Mount; Code_JEDEC: MS-012-AA; ComponentLink1Description: Manufacturer URL; ComponentLink1URL: http://www.analog.com/en/index.html; ComponentLink2Description: Datasheet; ComponentLink2URL: http://www.analog.com/static/imported-files/data_sheets/ADA4084-2.pdf; ComponentLink3Description: Package Specification; ComponentLink3URL: http://www.analog.com/static/imported-files/packages/PKG_PDF/SOIC_Narrow%20(R)/R_8.pdf
footprint ADI-R-8_N (SOIC, 8-Leads, Body 4.9x3.9mm, Pitch 1.27mm, IPC Medium Density)
footprint ADI-R-8_L (SOIC, 8-Leads, Body 4.9x3.9mm, Pitch 1.27mm, IPC High Density)
footprint ADI-R-8_M (SOIC, 8-Leads, Body 4.9x3.9mm, Pitch 1.27mm, IPC Low Density)
pins on every part: 4 -V (power), 8 +V (power)
part A pins: 1 OUT A (out), 2 -IN A (in), 3 +IN A (in)
part B pins: 5 +IN B (in), 6 -IN B (in), 7 OUT B (out)

## ADA4084-2ARZ-R7
designator U?
Double Channel Low Power Operational Amplifier, 12.3 MHz BW, 2.6 V/us SR, Industrial, 8-pin SOIC (R-8), Reel; Generic Part Number: ADA4084-2; Manufacturer: Analog Devices; PartNumber: ADA4084-2ARZ-R7; Amplifiers Per Package: 2; Input Bias Current: 140nA; Input Offset Voltage: 100uV; Iq/Amp: 595uA; V Span Max: 30V; V Span Min: 3V; DatasheetVersion: Rev. B; PackageVersion: 060506-A; PackageReference: R-8; PackageDescription: 8-Pin Standard Small Outline Package, Body 3.9 x 4.9 mm, Pitch 1.27 mm; Supplier 1: Digi-Key; Supplier Part Number 1: ADA4084-2ARZ-R7TR-ND; Supplier 2: Digi-Key; Supplier Part Number 2: ADA4084-2ARZ-R7CT-ND; Supplier 3: Digi-Key; Supplier Part Number 3: ADA4084-2ARZ-R7DKR-ND; Supplier 4: Newark; Supplier Part Number 4: 72T3473; Packing: Reel; Slew Rate: 2.6V/us; Small Signal Bandwidth: 12.3MHz; Mounting Technology: Surface Mount; Code_JEDEC: MS-012-AA; ComponentLink1Description: Manufacturer URL; ComponentLink1URL: http://www.analog.com/en/index.html; ComponentLink2Description: Datasheet; ComponentLink2URL: http://www.analog.com/static/imported-files/data_sheets/ADA4084-2.pdf; ComponentLink3Description: Package Specification; ComponentLink3URL: http://www.analog.com/static/imported-files/packages/PKG_PDF/SOIC_Narrow%20(R)/R_8.pdf
footprint ADI-R-8_N (SOIC, 8-Leads, Body 4.9x3.9mm, Pitch 1.27mm, IPC Medium Density)
footprint ADI-R-8_L (SOIC, 8-Leads, Body 4.9x3.9mm, Pitch 1.27mm, IPC High Density)
footprint ADI-R-8_M (SOIC, 8-Leads, Body 4.9x3.9mm, Pitch 1.27mm, IPC Low Density)
pins on every part: 4 -V (power), 8 +V (power)
part A pins: 1 OUT A (out), 2 -IN A (in), 3 +IN A (in)
part B pins: 5 +IN B (in), 6 -IN B (in), 7 OUT B (out)

## ADA4084-2ARZ-RL
designator U?
Double Channel Low Power Operational Amplifier, 12.3 MHz BW, 2.6 V/us SR, Industrial, 8-pin SOIC (R-8), Reel; Generic Part Number: ADA4084-2; Manufacturer: Analog Devices; PartNumber: ADA4084-2ARZ-RL; Amplifiers Per Package: 2; Input Bias Current: 140nA; Input Offset Voltage: 100uV; Iq/Amp: 595uA; V Span Max: 30V; V Span Min: 3V; DatasheetVersion: Rev. B; PackageVersion: 060506-A; PackageReference: R-8; PackageDescription: 8-Pin Standard Small Outline Package, Body 3.9 x 4.9 mm, Pitch 1.27 mm; Supplier 1: Digi-Key; Supplier Part Number 1: ADA4084-2ARZ-RL-ND; Packing: Reel; Slew Rate: 2.6V/us; Small Signal Bandwidth: 12.3MHz; Mounting Technology: Surface Mount; Code_JEDEC: MS-012-AA; ComponentLink1Description: Manufacturer URL; ComponentLink1URL: http://www.analog.com/en/index.html; ComponentLink2Description: Datasheet; ComponentLink2URL: http://www.analog.com/static/imported-files/data_sheets/ADA4084-2.pdf; ComponentLink3Description: Package Specification; ComponentLink3URL: http://www.analog.com/static/imported-files/packages/PKG_PDF/SOIC_Narrow%20(R)/R_8.pdf
footprint ADI-R-8_N (SOIC, 8-Leads, Body 4.9x3.9mm, Pitch 1.27mm, IPC Medium Density)
footprint ADI-R-8_L (SOIC, 8-Leads, Body 4.9x3.9mm, Pitch 1.27mm, IPC High Density)
footprint ADI-R-8_M (SOIC, 8-Leads, Body 4.9x3.9mm, Pitch 1.27mm, IPC Low Density)
pins on every part: 4 -V (power), 8 +V (power)
part A pins: 1 OUT A (out), 2 -IN A (in), 3 +IN A (in)
part B pins: 5 +IN B (in), 6 -IN B (in), 7 OUT B (out)

## ADA4091-2ACPZ-R2
designator U?
Double Channel Rail-to-Rail Operational Amplifier, 1.27 MHz BW, 460 mV/us SR, Industrial, 8-pin QFN (CP-8-9), Reel; Generic Part Number: ADA4091-2; Manufacturer: Analog Devices; PartNumber: ADA4091-2ACPZ-R2; Amplifiers Per Package: 2; Input Bias Current: 50nA; Input Offset Voltage: 35uV; Iq/Amp: 200uA; V Span Max: 30V; V Span Min: 3V; DatasheetVersion: Rev. F; PackageVersion: 051909-A; PackageReference: CP-8-9; PackageDescription: 8-Pin Lead Frame Chip Scale Package, Body 3 x 3 mm, Pitch 0.5 mm; Supplier 1: Digi-Key; Supplier Part Number 1: ADA4091-2ACPZ-R2TR-ND; Supplier 2: Digi-Key; Supplier Part Number 2: ADA4091-2ACPZ-R2CT-ND; Supplier 3: Digi-Key; Supplier Part Number 3: ADA4091-2ACPZ-R2DKR-ND; Supplier 4: Newark; Supplier Part Number 4: 52R8019; Slew Rate: 460mV/us; Small Signal Bandwidth: 1.27MHz; Mounting Technology: Surface Mount; ComponentLink1Description: Manufacturer URL; ComponentLink1URL: http://www.analog.com/en/index.html; ComponentLink2Description: Datasheet; ComponentLink2URL: http://www.analog.com/static/imported-files/data_sheets/ADA4091-2_4091-4.pdf; ComponentLink3Description: Package Specification; ComponentLink3URL: http://www.analog.com/static/imported-files/packages/PKG_PDF/LFCSP(CP)/CP_8_9.pdf; ComponentLink4Description: Reference Circuit; ComponentLink4URL: http://www.analog.com/en/all-operational-amplifiers-op-amps/operational-amplifiers-op-amps/ada4091-2/products/product.html#product-recommendations
footprint ADI-CP-8-9_N (QFN, 8-Leads, Body 3x3mm, Pitch 0.5mm, Thermal Pad 1.5x2.13mm, IPC Medium Density)
footprint ADI-CP-8-9_L (QFN, 8-Leads, Body 3x3mm, Pitch 0.5mm, Thermal Pad 1.5x2.13mm, IPC High Density)
footprint ADI-CP-8-9_M (QFN, 8-Leads, Body 3x3mm, Pitch 0.5mm, Thermal Pad 1.5x2.13mm, IPC Low Density)
pins on every part: 4 -V (power), 8 +V (power), 9 EP (power)
part A pins: 1 OUT A (out), 2 -IN A (in), 3 +IN A (in)
part B pins: 5 +IN B (in), 6 -IN B (in), 7 OUT B (out)

## ADA4091-2ACPZ-R7
designator U?
Double Channel Rail-to-Rail Operational Amplifier, 1.27 MHz BW, 460 mV/us SR, Industrial, 8-pin QFN (CP-8-9), Reel; Generic Part Number: ADA4091-2; Manufacturer: Analog Devices; PartNumber: ADA4091-2ACPZ-R7; Amplifiers Per Package: 2; Input Bias Current: 50nA; Input Offset Voltage: 35uV; Iq/Amp: 200uA; V Span Max: 30V; V Span Min: 3V; DatasheetVersion: Rev. F; PackageVersion: 051909-A; PackageReference: CP-8-9; PackageDescription: 8-Pin Lead Frame Chip Scale Package, Body 3 x 3 mm, Pitch 0.5 mm; Supplier 1: Digi-Key; Supplier Part Number 1: ADA4091-2ACPZ-R7-ND; Supplier 2: Newark; Supplier Part Number 2: 52R8020; Slew Rate: 460mV/us; Small Signal Bandwidth: 1.27MHz; Mounting Technology: Surface Mount; ComponentLink1Description: Manufacturer URL; ComponentLink1URL: http://www.analog.com/en/index.html; ComponentLink2Description: Datasheet; ComponentLink2URL: http://www.analog.com/static/imported-files/data_sheets/ADA4091-2_4091-4.pdf; ComponentLink3Description: Package Specification; ComponentLink3URL: http://www.analog.com/static/imported-files/packages/PKG_PDF/LFCSP(CP)/CP_8_9.pdf; ComponentLink4Description: Reference Circuit; ComponentLink4URL: http://www.analog.com/en/all-operational-amplifiers-op-amps/operational-amplifiers-op-amps/ada4091-2/products/product.html#product-recommendations
footprint ADI-CP-8-9_N (QFN, 8-Leads, Body 3x3mm, Pitch 0.5mm, Thermal Pad 1.5x2.13mm, IPC Medium Density)
footprint ADI-CP-8-9_L (QFN, 8-Leads, Body 3x3mm, Pitch 0.5mm, Thermal Pad 1.5x2.13mm, IPC High Density)
footprint ADI-CP-8-9_M (QFN, 8-Leads, Body 3x3mm, Pitch 0.5mm, Thermal Pad 1.5x2.13mm, IPC Low Density)
pins on every part: 4 -V (power), 8 +V (power), 9 EP (power)
part A pins: 1 OUT A (out), 2 -IN A (in), 3 +IN A (in)
part B pins: 5 +IN B (in), 6 -IN B (in), 7 OUT B (out)

## ADA4091-2ACPZ-RL
designator U?
Double Channel Rail-to-Rail Operational Amplifier, 1.27 MHz BW, 460 mV/us SR, Industrial, 8-pin QFN (CP-8-9), Reel; Generic Part Number: ADA4091-2; Manufacturer: Analog Devices; PartNumber: ADA4091-2ACPZ-RL; Amplifiers Per Package: 2; Input Bias Current: 50nA; Input Offset Voltage: 35uV; Iq/Amp: 200uA; V Span Max: 30V; V Span Min: 3V; DatasheetVersion: Rev. F; PackageVersion: 051909-A; PackageReference: CP-8-9; PackageDescription: 8-Pin Lead Frame Chip Scale Package, Body 3 x 3 mm, Pitch 0.5 mm; Supplier 1: Digi-Key; Supplier Part Number 1: ADA4091-2ACPZ-RL-ND; Slew Rate: 460mV/us; Small Signal Bandwidth: 1.27MHz; Mounting Technology: Surface Mount; ComponentLink1Description: Manufacturer URL; ComponentLink1URL: http://www.analog.com/en/index.html; ComponentLink2Description: Datasheet; ComponentLink2URL: http://www.analog.com/static/imported-files/data_sheets/ADA4091-2_4091-4.pdf; ComponentLink3Description: Package Specification; ComponentLink3URL: http://www.analog.com/static/imported-files/packages/PKG_PDF/LFCSP(CP)/CP_8_9.pdf; ComponentLink4Description: Reference Circuit; ComponentLink4URL: http://www.analog.com/en/all-operational-amplifiers-op-amps/operational-amplifiers-op-amps/ada4091-2/products/product.html#product-recommendations
footprint ADI-CP-8-9_N (QFN, 8-Leads, Body 3x3mm, Pitch 0.5mm, Thermal Pad 1.5x2.13mm, IPC Medium Density)
footprint ADI-CP-8-9_L (QFN, 8-Leads, Body 3x3mm, Pitch 0.5mm, Thermal Pad 1.5x2.13mm, IPC High Density)
footprint ADI-CP-8-9_M (QFN, 8-Leads, Body 3x3mm, Pitch 0.5mm, Thermal Pad 1.5x2.13mm, IPC Low Density)
pins on every part: 4 -V (power), 8 +V (power), 9 EP (power)
part A pins: 1 OUT A (out), 2 -IN A (in), 3 +IN A (in)
part B pins: 5 +IN B (in), 6 -IN B (in), 7 OUT B (out)

## ADA4091-2ARZ
designator U?
Double Channel Rail-to-Rail Operational Amplifier, 1.27 MHz BW, 460 mV/us SR, Industrial, 8-pin SOIC (R-8), Tube; Generic Part Number: ADA4091-2; Manufacturer: Analog Devices; PartNumber: ADA4091-2ARZ; Amplifiers Per Package: 2; Input Bias Current: 50nA; Input Offset Voltage: 35uV; Iq/Amp: 200uA; V Span Max: 30V; V Span Min: 3V; DatasheetVersion: Rev. F; PackageVersion: 060506-A; PackageReference: R-8; PackageDescription: 8-Pin Standard Small Outline Package, Body 3.9 x 4.9 mm, Pitch 1.27 mm; Supplier 1: Digi-Key; Supplier Part Number 1: ADA4091-2ARZ-ND; Supplier 2: Farnell; Supplier Part Number 2: 1702289; Supplier 3: Newark; Supplier Part Number 3: 34P2964; Slew Rate: 460mV/us; Small Signal Bandwidth: 1.27MHz; Mounting Technology: Surface Mount; Code_JEDEC: MS-012-AA; ComponentLink1Description: Manufacturer URL; ComponentLink1URL: http://www.analog.com/en/index.html; ComponentLink2Description: Datasheet; ComponentLink2URL: http://www.analog.com/static/imported-files/data_sheets/ADA4091-2_4091-4.pdf; ComponentLink3Description: Package Specification; ComponentLink3URL: http://www.analog.com/static/imported-files/packages/PKG_PDF/SOIC_Narrow%20(R)/R_8.pdf; ComponentLink4Description: Reference Circuit; ComponentLink4URL: http://www.analog.com/en/all-operational-amplifiers-op-amps/operational-amplifiers-op-amps/ada4091-2/products/product.html#product-recommendations
footprint ADI-R-8_N (SOIC, 8-Leads, Body 4.9x3.9mm, Pitch 1.27mm, IPC Medium Density)
footprint ADI-R-8_L (SOIC, 8-Leads, Body 4.9x3.9mm, Pitch 1.27mm, IPC High Density)
footprint ADI-R-8_M (SOIC, 8-Leads, Body 4.9x3.9mm, Pitch 1.27mm, IPC Low Density)
pins on every part: 4 -V (power), 8 +V (power)
part A pins: 1 OUT A (out), 2 -IN A (in), 3 +IN A (in)
part B pins: 5 +IN B (in), 6 -IN B (in), 7 OUT B (out)